# Altium footprint library Radiator_122X80_M4.PcbLib: 1 footprints
Each footprint in its own frame and in the unit in brackets; x right, y up, seen from the top. Pads: shape width x height; smd on the part's side, far side on the other; paste and mask are expansions set on the pad; w line width, h text height; cw(c..) or ccw(c..) is an arc to the next point about the centre after c.
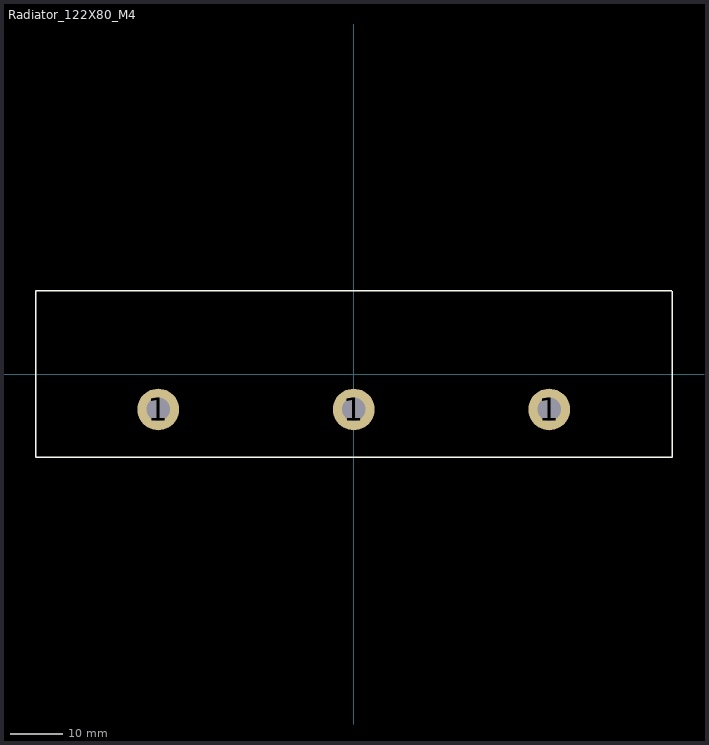
[diagram p0: the footprint, top view; thin cyan lines are the x and y axes]

## Radiator_122X80_M4 [mm]
pads (3):
  round 8 hole 4.5: 1(-37.5,-6.8) 1(0,-6.8) 1(37.5,-6.8)
Top Overlay:
  lines w0.254: 61,16 -61,16 -61,-16 61.1,-16 61.1,15.9
3D body "Радиатор_122х80_для_TO_247_с_винатми_и_шайбами_М4.STEP": height 80.27, standoff -5.02, extent -61,-16 61,16